# Altium footprint library QFN-36(60X50)-T46X36.PcbLib: 1 footprints
Each footprint in its own frame and in the unit in brackets; x right, y up, seen from the top. Pads: shape width x height; smd on the part's side, far side on the other; paste and mask are expansions set on the pad; w line width, h text height; cw(c..) or ccw(c..) is an arc to the next point about the centre after c.
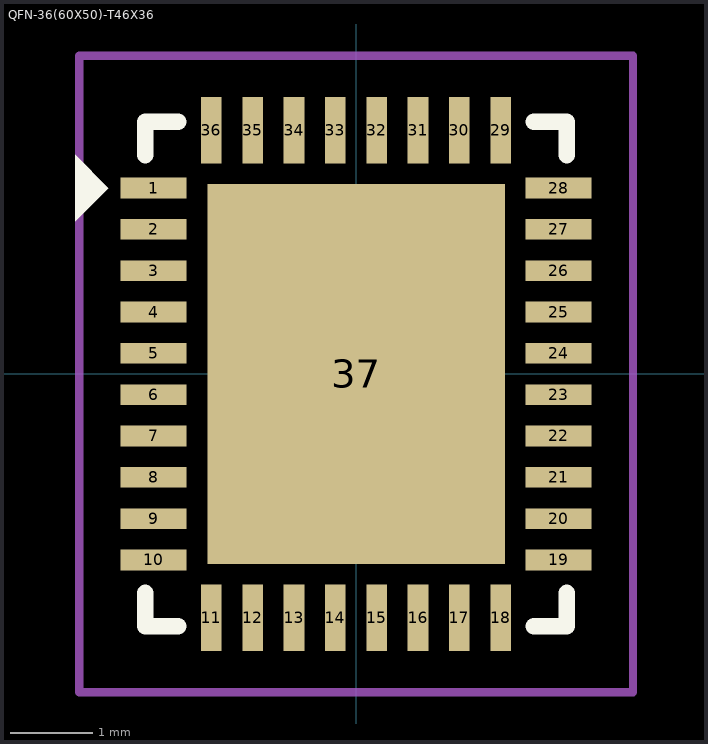
[diagram p0: the footprint, top view; thin cyan lines are the x and y axes]

## QFN-36(60X50)-T46X36 [mm]
pads (37):
  rect 0.8x0.25 smd: 1(-2.45,2.251) 2(-2.45,1.75) 3(-2.45,1.25) 4(-2.45,0.75) 5(-2.45,0.25) 6(-2.45,-0.25) 7(-2.45,-0.75) 8(-2.45,-1.25) 9(-2.45,-1.75) 10(-2.45,-2.251) 19(2.45,-2.251) 20(2.45,-1.75) 21(2.45,-1.25) 22(2.45,-0.75) 23(2.45,-0.25) 24(2.45,0.25) 25(2.45,0.75) 26(2.45,1.25) 27(2.45,1.75) 28(2.45,2.251)
  rect 0.25x0.8 smd: 11(-1.75,-2.95) 12(-1.25,-2.95) 13(-0.75,-2.95) 14(-0.25,-2.95) 15(0.25,-2.95) 16(0.75,-2.95) 17(1.25,-2.95) 18(1.75,-2.95) 29(1.75,2.95) 30(1.25,2.95) 31(0.75,2.95) 32(0.25,2.95) 33(-0.25,2.95) 34(-0.75,2.95) 35(-1.25,2.95) 36(-1.75,2.95)
  rect 3.6x4.6 smd paste-2539.97: 37(0,0)
Top Overlay:
  region: -3.4,1.851 -3.4,2.651 -3,2.251
  lines w0.2: -2.55,-2.65 -2.55,-3.05 -2.15,-3.05 ; -2.55,2.65 -2.55,3.05 -2.15,3.05 ; 2.15,-3.05 2.55,-3.05 2.55,-2.65 ; 2.15,3.05 2.55,3.05 2.55,2.65
Top Paste:
  rectangle: 0.25,0.25 1.5,2
  region: -0.25,2 -1.5,2 -1.5,0.25 -0.25,0.25
  region: -0.25,-0.25 -1.5,-0.25 -1.5,-2 -0.25,-2
  rectangle: 0.25,-2 1.5,-0.25
Top Courtyard:
  lines w0.1: -3.35,-3.85 3.35,-3.85 3.35,3.85 -3.35,3.85 -3.35,-3.85
3D body "VQFN36_RRV_TEX.step": height 0.99, standoff 0, extent -2.553,-3.048 2.553,3.048